# Altium footprint library AUAV-X1_R1.PcbLib: 39 footprints (part 2 of 3)
Each footprint in its own frame and in the unit in brackets; x right, y up, seen from the top. Pads: shape width x height; smd on the part's side, far side on the other; paste and mask are expansions set on the pad; w line width, h text height; cw(c..) or ccw(c..) is an arc to the next point about the centre after c.
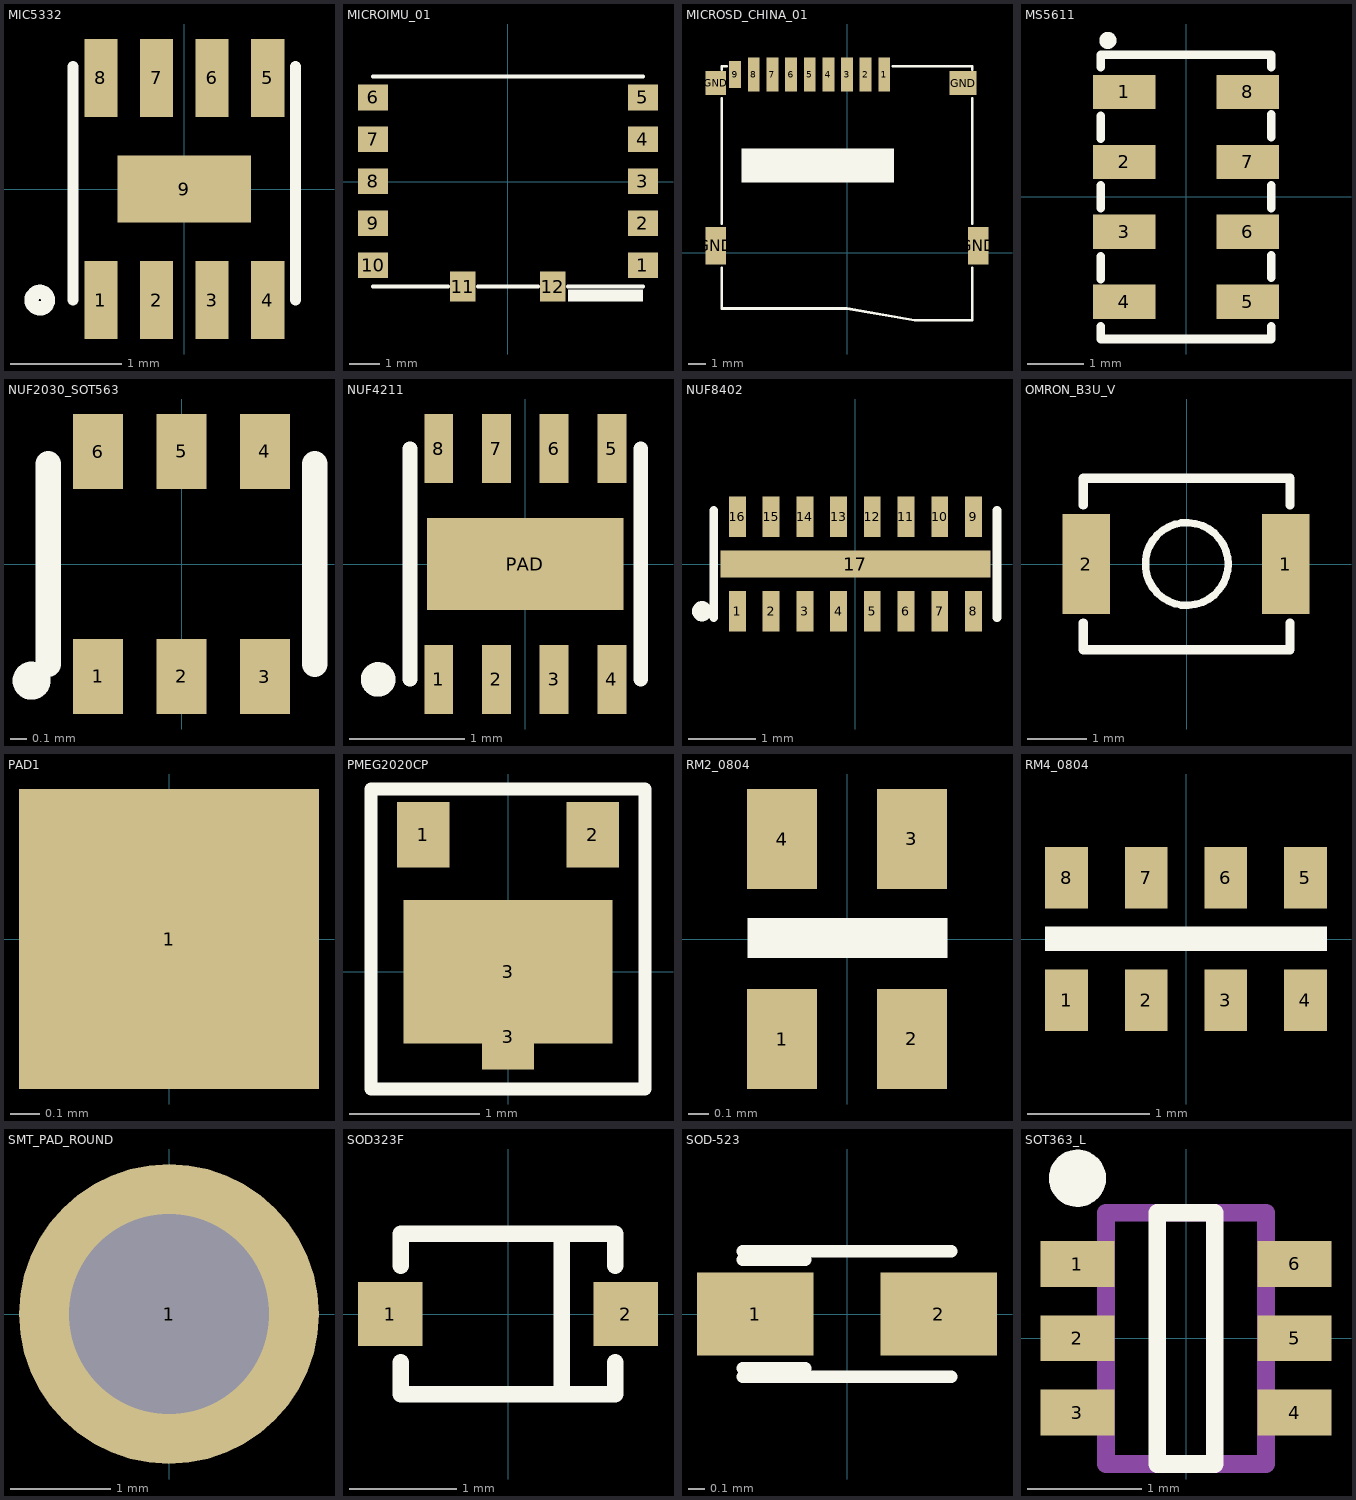
[diagram p1: the footprints below, top view; thin cyan lines are the x and y axes]

## MIC5332 [mm]
pads (9):
  rect 0.3x0.7 smd: 1(-0.75,-1) 2(-0.25,-1) 3(0.25,-1) 4(0.75,-1) 5(0.75,1) 6(0.25,1) 7(-0.25,1) 8(-0.75,1)
  rect 1.2x0.6 smd: 9(0,0)
Top Overlay:
  circle w0.127: c-1.3,-1 r0.075
  lines w0.1: -1,-1 -1,1.1 ; 1,-1 1,1.1

## MICROIMU_01 [mm]
pads (12):
  rect 1x0.85 smd: 1(4.5,-2.8) 2(4.5,-1.4) 3(4.5,0) 4(4.5,1.4) 5(4.5,2.8) 6(-4.5,2.8) 7(-4.5,1.4) 8(-4.5,0) 9(-4.5,-1.4) 10(-4.5,-2.8)
  rect 0.85x1 smd: 11(-1.5,-3.5) 12(1.5,-3.5)
Top Overlay:
  rectangle: 2,-4 4.5,-3.6
  lines w0.127: -4.5,-3.5 -2,-3.5 ; -4.5,3.5 4.5,3.5 ; -1,-3.5 1,-3.5 ; 2,-3.5 4.5,-3.5

## MICROSD_CHINA_01 [mm]
pads (13):
  rect 0.7x2 smd: 1(2.2,10.5) 2(1.1,10.5) 3(0,10.5) 4(-1.1,10.5) 5(-2.2,10.5) 6(-3.3,10.5) 7(-4.4,10.5) 8(-5.5,10.5)
  rect 0.7x1.6 smd: 9(-6.6,10.5)
  rect 1.2x2.2 smd: GND(-7.75,0.4) GND(7.75,0.4)
  rect 1.2x1.4 smd: GND(-7.75,10)
  rect 1.6x1.4 smd: GND(6.85,10)
Top Overlay:
  region: 2.775,6.125 -6.225,6.125 -6.225,4.125 2.775,4.125
  lines w0.154: -7.4,-0.9 -7.4,-3.3 0,-3.3 4,-4 7.4,-4 7.4,-0.9 ; -7.4,1.7 -7.4,9.1 ; -7.4,10.8 -7.4,11 -7.1,11 ; 2.7,11 7.4,11 7.4,10.8 ; 7.4,1.7 7.4,9.1

## MS5611 [mil]
height 69.29
pads (8):
  rect 44x24 smd: 1(-43.3,73.8) 2(-43.3,24.6) 3(-43.3,-24.6) 4(-43.3,-73.8) 5(43.3,-73.8) 6(43.3,-24.6) 7(43.3,24.6) 8(43.3,73.8)
Top Overlay:
  circle w10: c-55,110 r1
  lines w6.06: -60,-91 -60,-100 60,-100 60,-91 ; -60,-58 -60,-42 ; -60,-8 -60,8 ; -60,41 -60,57 ; -60,91 -60,100 60,100 60,91 ; 60,-57 60,-41 ; 60,-8 60,8 ; 60,42 60,58

## NUF2030_SOT563 [mm]
height 1.76
pads (6):
  rect 0.3x0.45 smd: 1(-0.5,-0.675) 2(0,-0.675) 3(0.5,-0.675) 4(0.5,0.675) 5(0,0.675) 6(-0.5,0.675)
Top Overlay:
  circle w0.127: c-0.9,-0.7 r0.051
  lines w0.154: -0.8,-0.6 -0.8,0.6 ; 0.8,-0.6 0.8,0.6

## NUF4211 [mm]
pads (9):
  rect 0.25x0.6 smd: 1(-0.75,-1) 2(-0.25,-1) 3(0.25,-1) 4(0.75,-1) 5(0.75,1) 6(0.25,1) 7(-0.25,1) 8(-0.75,1)
  rect 1.7x0.8 smd: PAD(0,0)
Top Overlay:
  circle w0.15: c-1.275,-1 r0.075
  lines w0.127: -1,-1 -1,1 ; 1,-1 1,1

## NUF8402 [mm]
pads (17):
  rect 0.25x0.6 smd: 1(-1.75,-0.7) 2(-1.25,-0.7) 3(-0.75,-0.7) 4(-0.25,-0.7) 5(0.25,-0.7) 6(0.75,-0.7) 7(1.25,-0.7) 8(1.75,-0.7) 9(1.75,0.7) 10(1.25,0.7) 11(0.75,0.7) 12(0.25,0.7) 13(-0.25,0.7) 14(-0.75,0.7) 15(-1.25,0.7) 16(-1.75,0.7)
  rect 4x0.4 smd: 17(0,0)
Top Overlay:
  circle w0.15: c-2.275,-0.7 r0.075
  lines w0.127: -2.1,-0.8 -2.1,0.8 ; 2.1,-0.8 2.1,0.8

## OMRON_B3U_V [mm]
pads (2):
  rect 0.8x1.7 smd: 1(1.675,0) 2(-1.7,0)
Top Overlay:
  circle w0.127: c0,0 r0.7
  lines w0.154: -1.75,-1 -1.75,-1.45 1.75,-1.45 1.75,-1 ; -1.75,1 -1.75,1.45 1.75,1.45 1.75,1

## PAD1 [mil]
pads (1):
  rect 40x40 smd: 1(0,0)

## PMEG2020CP [mm]
pads (4):
  rect 0.4x0.5 smd: 1(-0.65,1.05) 2(0.65,1.05) 3(0,-0.5)
  rect 1.6x1.1 smd: 3(0,0)
Top Overlay:
  lines w0.1: -1.05,-0.9 -1.05,1.4 1.05,1.4 1.05,-0.9 -1.05,-0.9

## RM2_0804 [mm]
height 1.76
pads (4):
  rect 0.35x0.5 smd: 1(-0.325,-0.5) 2(0.325,-0.5) 3(0.325,0.5) 4(-0.325,0.5)
Top Overlay:
  rectangle: -0.497,-0.096 0.503,0.104

## RM4_0804 [mm]
height 1.1
pads (8):
  rect 0.35x0.5 smd: 1(-0.975,-0.5) 2(-0.325,-0.5) 3(0.325,-0.5) 4(0.975,-0.5) 5(0.975,0.5) 6(0.325,0.5) 7(-0.325,0.5) 8(-0.975,0.5)
Top Overlay:
  rectangle: -1.15,-0.1 1.15,0.1

## SMT_PAD_ROUND [mm]
height 0.55
pads (1):
  round 3 / inner round 2.1 / far side round 3 hole 2: 1(0,0)

## SOD323F [mm]
pads (2):
  rect 0.6x0.6 smd: 1(-1.1,0) 2(1.1,0)
Top Overlay:
  lines w0.154: -1,-0.45 -1,-0.75 1,-0.75 1,-0.45 ; -1,0.45 -1,0.75 1,0.75 1,0.45 ; 0.5,-0.75 0.5,0.75

## SOD-523 [mil]
height 59.06
pads (2):
  rect 28x20 smd: 1(-22,0) 2(22,0)
Top Overlay:
  lines w3: -25,-15 25,-15 ; -25,-13 -10,-13 ; -25,13 -10,13 ; -25,15 25,15

## SOT363_L [mm] "SOT363, 6-Leads, Body 2x1.3mm, Pitch 0.65mm, Lead Span 2.1mm, IPC High Density"
height 1.1
pads (6):
  rect 0.65x0.4 smd: 1(-0.95,0.65) 2(-0.95,0) 3(-0.95,-0.65) 4(0.95,-0.65) 5(0.95,0) 6(0.95,0.65)
Top Overlay:
  circle w0.25: c-0.95,1.4 r0.125
  lines w0.154: -0.25,-1.1 -0.25,1.1 0.25,1.1 0.25,-1.1 -0.25,-1.1
Mechanical 13:
  lines w0.154: -0.7,-1.1 0.7,-1.1 0.7,1.1 -0.7,1.1 -0.7,-1.1
3D body: height 1.1, standoff 0, extent -0.7,-1.1 0.7,1.1